# Altium footprint library con-leotronics.PCBLIB: 93 footprints (part 8 of 8)
Each footprint in its own frame and in the unit in brackets; x right, y up, seen from the top. Pads: shape width x height; smd on the part's side, far side on the other; paste and mask are expansions set on the pad; w line width, h text height; cw(c..) or ccw(c..) is an arc to the next point about the centre after c.
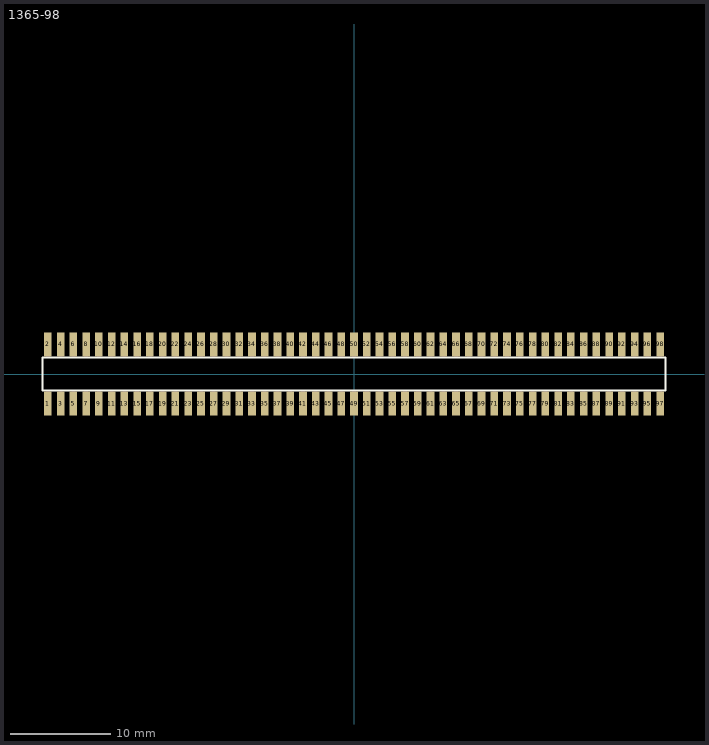
[diagram p7: the footprint, top view; thin cyan lines are the x and y axes]

## 1365-98 [mm]
pads (98):
  rect 0.76x2.4 smd: 1(-30.48,-2.95) 2(-30.48,2.95) 3(-29.21,-2.95) 4(-29.21,2.95) 5(-27.94,-2.95) 6(-27.94,2.95) 7(-26.67,-2.95) 8(-26.67,2.95) 9(-25.4,-2.95) 10(-25.4,2.95) 11(-24.13,-2.95) 12(-24.13,2.95) 13(-22.86,-2.95) 14(-22.86,2.95) 15(-21.59,-2.95) 16(-21.59,2.95) 17(-20.32,-2.95) 18(-20.32,2.95) 19(-19.05,-2.95) 20(-19.05,2.95) 21(-17.78,-2.95) 22(-17.78,2.95) 23(-16.51,-2.95) 24(-16.51,2.95) 25(-15.24,-2.95) 26(-15.24,2.95) 27(-13.97,-2.95) 28(-13.97,2.95) 29(-12.7,-2.95) 30(-12.7,2.95) 31(-11.43,-2.95) 32(-11.43,2.95) 33(-10.16,-2.95) 34(-10.16,2.95) 35(-8.89,-2.95) 36(-8.89,2.95) 37(-7.62,-2.95) 38(-7.62,2.95) 39(-6.35,-2.95) 40(-6.35,2.95) 41(-5.08,-2.95) 42(-5.08,2.95) 43(-3.81,-2.95) 44(-3.81,2.95) 45(-2.54,-2.95) 46(-2.54,2.95) 47(-1.27,-2.95) 48(-1.27,2.95) 49(0,-2.95) 50(0,2.95) 51(1.27,-2.95) 52(1.27,2.95) 53(2.54,-2.95) 54(2.54,2.95) 55(3.81,-2.95) 56(3.81,2.95) 57(5.08,-2.95) 58(5.08,2.95) 59(6.35,-2.95) 60(6.35,2.95) 61(7.62,-2.95) 62(7.62,2.95) 63(8.89,-2.95) 64(8.89,2.95) 65(10.16,-2.95) 66(10.16,2.95) 67(11.43,-2.95) 68(11.43,2.95) 69(12.7,-2.95) 70(12.7,2.95) 71(13.97,-2.95) 72(13.97,2.95) 73(15.24,-2.95) 74(15.24,2.95) 75(16.51,-2.95) 76(16.51,2.95) 77(17.78,-2.95) 78(17.78,2.95) 79(19.05,-2.95) 80(19.05,2.95) 81(20.32,-2.95) 82(20.32,2.95) 83(21.59,-2.95) 84(21.59,2.95) 85(22.86,-2.95) 86(22.86,2.95) 87(24.13,-2.95) 88(24.13,2.95) 89(25.4,-2.95) 90(25.4,2.95) 91(26.67,-2.95) 92(26.67,2.95) 93(27.94,-2.95) 94(27.94,2.95) 95(29.21,-2.95) 96(29.21,2.95) 97(30.48,-2.95) 98(30.48,2.95)
Top Overlay:
  lines w0.203: -31.015,-1.63 31.01,-1.63 31.01,1.63 -31.015,1.63 -31.015,-1.63
Mechanical 16:
  rectangle: -30.68,1.725 -30.28,2.75
  region: -30.28,-1.725 -30.68,-1.725 -30.68,-2.75 -30.28,-2.75
  rectangle: -29.41,1.725 -29.01,2.75
  region: -29.01,-1.725 -29.41,-1.725 -29.41,-2.75 -29.01,-2.75
  rectangle: -28.14,1.725 -27.74,2.75
  region: -27.74,-1.725 -28.14,-1.725 -28.14,-2.75 -27.74,-2.75
  rectangle: -26.87,1.725 -26.47,2.75
  region: -26.47,-1.725 -26.87,-1.725 -26.87,-2.75 -26.47,-2.75
  rectangle: -25.6,1.725 -25.2,2.75
  region: -25.2,-1.725 -25.6,-1.725 -25.6,-2.75 -25.2,-2.75
  rectangle: -24.33,1.725 -23.93,2.75
  region: -23.93,-1.725 -24.33,-1.725 -24.33,-2.75 -23.93,-2.75
  rectangle: -23.06,1.725 -22.66,2.75
  region: -22.66,-1.725 -23.06,-1.725 -23.06,-2.75 -22.66,-2.75
  rectangle: -21.79,1.725 -21.39,2.75
  region: -21.39,-1.725 -21.79,-1.725 -21.79,-2.75 -21.39,-2.75
  rectangle: -20.52,1.725 -20.12,2.75
  region: -20.12,-1.725 -20.52,-1.725 -20.52,-2.75 -20.12,-2.75
  rectangle: -19.25,1.725 -18.85,2.75
  region: -18.85,-1.725 -19.25,-1.725 -19.25,-2.75 -18.85,-2.75
  rectangle: -17.98,1.725 -17.58,2.75
  region: -17.58,-1.725 -17.98,-1.725 -17.98,-2.75 -17.58,-2.75
  rectangle: -16.71,1.725 -16.31,2.75
  region: -16.31,-1.725 -16.71,-1.725 -16.71,-2.75 -16.31,-2.75
  rectangle: -15.44,1.725 -15.04,2.75
  region: -15.04,-1.725 -15.44,-1.725 -15.44,-2.75 -15.04,-2.75
  rectangle: -14.17,1.725 -13.77,2.75
  region: -13.77,-1.725 -14.17,-1.725 -14.17,-2.75 -13.77,-2.75
  rectangle: -12.9,1.725 -12.5,2.75
  region: -12.5,-1.725 -12.9,-1.725 -12.9,-2.75 -12.5,-2.75
  rectangle: -11.63,1.725 -11.23,2.75
  region: -11.23,-1.725 -11.63,-1.725 -11.63,-2.75 -11.23,-2.75
  rectangle: -10.36,1.725 -9.96,2.75
  region: -9.96,-1.725 -10.36,-1.725 -10.36,-2.75 -9.96,-2.75
  rectangle: -9.09,1.725 -8.69,2.75
  region: -8.69,-1.725 -9.09,-1.725 -9.09,-2.75 -8.69,-2.75
  rectangle: -7.82,1.725 -7.42,2.75
  region: -7.42,-1.725 -7.82,-1.725 -7.82,-2.75 -7.42,-2.75
  rectangle: -6.55,1.725 -6.15,2.75
  region: -6.15,-1.725 -6.55,-1.725 -6.55,-2.75 -6.15,-2.75
  rectangle: -5.28,1.725 -4.88,2.75
  region: -4.88,-1.725 -5.28,-1.725 -5.28,-2.75 -4.88,-2.75
  rectangle: -4.01,1.725 -3.61,2.75
  region: -3.61,-1.725 -4.01,-1.725 -4.01,-2.75 -3.61,-2.75
  rectangle: -2.74,1.725 -2.34,2.75
  region: -2.34,-1.725 -2.74,-1.725 -2.74,-2.75 -2.34,-2.75
  rectangle: -1.47,1.725 -1.07,2.75
  region: -1.07,-1.725 -1.47,-1.725 -1.47,-2.75 -1.07,-2.75
  rectangle: -0.2,1.725 0.2,2.75
  region: 0.2,-1.725 -0.2,-1.725 -0.2,-2.75 0.2,-2.75
  rectangle: 1.07,1.725 1.47,2.75
  region: 1.47,-1.725 1.07,-1.725 1.07,-2.75 1.47,-2.75
  rectangle: 2.34,1.725 2.74,2.75
  region: 2.74,-1.725 2.34,-1.725 2.34,-2.75 2.74,-2.75
  rectangle: 3.61,1.725 4.01,2.75
  region: 4.01,-1.725 3.61,-1.725 3.61,-2.75 4.01,-2.75
  rectangle: 4.88,1.725 5.28,2.75
  region: 5.28,-1.725 4.88,-1.725 4.88,-2.75 5.28,-2.75
  rectangle: 6.15,1.725 6.55,2.75
  region: 6.55,-1.725 6.15,-1.725 6.15,-2.75 6.55,-2.75
  rectangle: 7.42,1.725 7.82,2.75
  region: 7.82,-1.725 7.42,-1.725 7.42,-2.75 7.82,-2.75
  rectangle: 8.69,1.725 9.09,2.75
  region: 9.09,-1.725 8.69,-1.725 8.69,-2.75 9.09,-2.75
  rectangle: 9.96,1.725 10.36,2.75
  region: 10.36,-1.725 9.96,-1.725 9.96,-2.75 10.36,-2.75
  rectangle: 11.23,1.725 11.63,2.75
  region: 11.63,-1.725 11.23,-1.725 11.23,-2.75 11.63,-2.75
  rectangle: 12.5,1.725 12.9,2.75
  region: 12.9,-1.725 12.5,-1.725 12.5,-2.75 12.9,-2.75
  rectangle: 13.77,1.725 14.17,2.75
  region: 14.17,-1.725 13.77,-1.725 13.77,-2.75 14.17,-2.75
  rectangle: 15.04,1.725 15.44,2.75
  region: 15.44,-1.725 15.04,-1.725 15.04,-2.75 15.44,-2.75
  rectangle: 16.31,1.725 16.71,2.75
  region: 16.71,-1.725 16.31,-1.725 16.31,-2.75 16.71,-2.75
  rectangle: 17.58,1.725 17.98,2.75
  region: 17.98,-1.725 17.58,-1.725 17.58,-2.75 17.98,-2.75
  rectangle: 18.85,1.725 19.25,2.75
  region: 19.25,-1.725 18.85,-1.725 18.85,-2.75 19.25,-2.75
  rectangle: 20.12,1.725 20.52,2.75
  region: 20.52,-1.725 20.12,-1.725 20.12,-2.75 20.52,-2.75
  rectangle: 21.39,1.725 21.79,2.75
  region: 21.79,-1.725 21.39,-1.725 21.39,-2.75 21.79,-2.75
  rectangle: 22.66,1.725 23.06,2.75
  region: 23.06,-1.725 22.66,-1.725 22.66,-2.75 23.06,-2.75
  rectangle: 23.93,1.725 24.33,2.75
  region: 24.33,-1.725 23.93,-1.725 23.93,-2.75 24.33,-2.75
  rectangle: 25.2,1.725 25.6,2.75
  region: 25.6,-1.725 25.2,-1.725 25.2,-2.75 25.6,-2.75
  rectangle: 26.47,1.725 26.87,2.75
  region: 26.87,-1.725 26.47,-1.725 26.47,-2.75 26.87,-2.75
  rectangle: 27.74,1.725 28.14,2.75
  region: 28.14,-1.725 27.74,-1.725 27.74,-2.75 28.14,-2.75
  rectangle: 29.01,1.725 29.41,2.75
  region: 29.41,-1.725 29.01,-1.725 29.01,-2.75 29.41,-2.75
  rectangle: 30.28,1.725 30.68,2.75
  region: 30.68,-1.725 30.28,-1.725 30.28,-2.75 30.68,-2.75